# EAGLE library part ICLA4440 (library chuong)
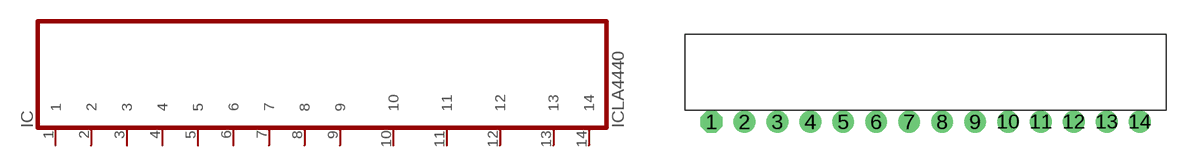
[diagram p69: symbol with the pads of LA4440; footprint LA4440]

Designator prefix IC

## ICLA4440  [LA4440]
1  1  in
2  2  in
3  3  in
4  4  in
5  5  in
6  6  in
7  7  in
8  8  in
9  9  in
10  10  in
11  11  in
12  12  in
13  13  in
14  14  in

## Footprint LA4440 (pad centres in mm)
drill 0.61 pad 1.676 octagon: 1 -6.35,-3.81
drill 0.61 pad 1.676 round: 2 -3.81,-3.81; 3 -1.27,-3.81; 4 1.27,-3.81; 5 3.81,-3.81; 6 6.35,-3.81; 7 8.89,-3.81; 8 11.43,-3.81; 9 13.97,-3.81; 10 16.51,-3.81; 11 19.05,-3.81; 12 21.59,-3.81; 13 24.13,-3.81; 14 26.67,-3.81